# Altium integrated library Diodes - TVS.IntLib: 5379 symbols (part 110 of 122)
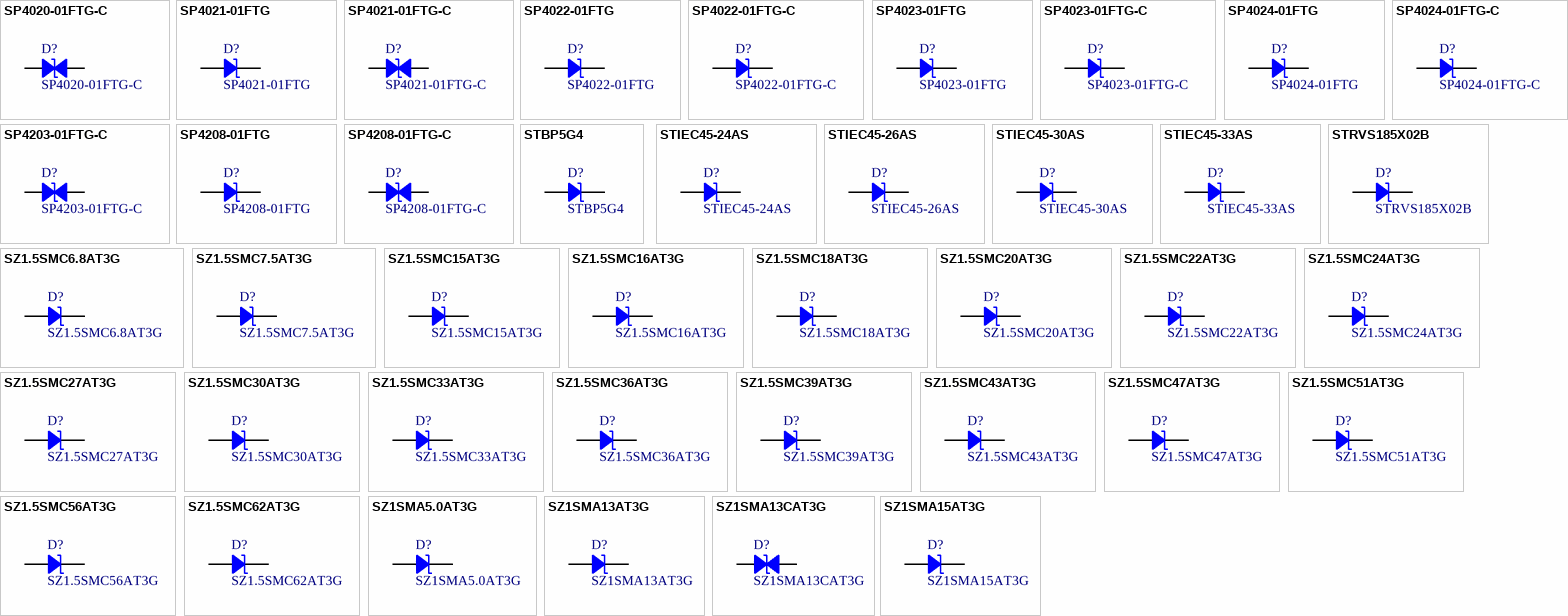
[diagram p243: symbols SP4020-01FTG-C to SZ1SMA15AT3G]

## SP4203-01FTG-C
designator D?
TVS DIODE 3.3VWM 10A ESD SOD323; Manufacturer: Littelfuse Inc.; Bidirectional Channels: 1; Capacitance @ Frequency: 0.5pF @ 1MHz; Current - Peak Pulse (10/1000µs): 10A (8/20µs); Power Line Protection: No; Type: Zener; Voltage - Breakdown (Min): 5.5V; Voltage - Clamping (Max) @ Ipp: 20V; Voltage - Reverse Standoff (Typ): 3.3V (Max); Part Number: SP4203-01FTG-C; Applications: General Purpose; ComponentLink1Description: Datasheet; ComponentLink1URL: https://www.littelfuse.com/~/media/electronics/datasheets/tvs_diode_arrays/littelfuse_tvs_diode_array_sp4203_datasheet.pdf.pdf; ComponentLink2Description: DigiKey Link; ComponentLink2URL: http://digikey.com/product-detail/en/littelfuse-inc/SP4203-01FTG-C/F11893CT-ND/9828987; LastUpdated: 9/2/2020 1:28:29 AM; Lifecycle Status: Active; Minimum Order: 1; Mounting Type: Surface Mount; Operating Temperature: -40°C ~ 125°C (TA); Package / Case: SC-76, SOD-323; Packaging: TapeAndReel; PartId: 9925; Part Status: Active; Price: 0.23; Series: Automotive, AEC-Q101, SP4203, SPA®; Supplier 1: DigiKey; Supplier Part Number 1: F11893CT-ND; Supplier Device Package: SOD-323
footprint SOD323
pins: 1, 2

## SP4208-01FTG
designator D?
TVS DIODE ARRAY 8VWM 30A SOD323; Manufacturer: Littelfuse Inc.; Capacitance @ Frequency: 3pF @ 1MHz; Current - Peak Pulse (10/1000µs): 30A (8/20µs); Power Line Protection: No; Power - Peak Pulse: 750W; Type: Zener; Unidirectional Channels: 1; Voltage - Breakdown (Min): 9.5V (Typ); Voltage - Clamping (Max) @ Ipp: 25V (Typ); Voltage - Reverse Standoff (Typ): 8V (Max); Part Number: SP4208-01FTG; Applications: General Purpose; ComponentLink1Description: Datasheet; ComponentLink1URL: https://www.littelfuse.com/~/media/electronics/datasheets/tvs_diode_arrays/littelfuse_tvs_diode_array_sp4208_datasheet.pdf.pdf; ComponentLink2Description: DigiKey Link; ComponentLink2URL: http://digikey.com/product-detail/en/littelfuse-inc/SP4208-01FTG/F10715CT-ND/8017924; LastUpdated: 9/2/2020 1:28:26 AM; Lifecycle Status: Active; Minimum Order: 1; Mounting Type: Surface Mount; Operating Temperature: -40°C ~ 125°C (TA); Package / Case: SC-76, SOD-323; Packaging: TapeAndReel; PartId: 9850; Part Status: Active; Price: 0.20; Series: Automotive, AEC-Q101,  SP4208, SPA®; Supplier 1: DigiKey; Supplier Part Number 1: F10715CT-ND; Supplier Device Package: SOD-323
footprint SOD323
pins: 1, 2

## SP4208-01FTG-C
designator D?
TVS DIODE ARRAY 8VWM 30A SOD323; Manufacturer: Littelfuse Inc.; Bidirectional Channels: 1; Capacitance @ Frequency: 3pF @ 1MHz; Current - Peak Pulse (10/1000µs): 30A (8/20µs); Power Line Protection: No; Power - Peak Pulse: 750W; Type: Zener; Voltage - Breakdown (Min): 9.5V (Typ); Voltage - Clamping (Max) @ Ipp: 25V (Typ); Voltage - Reverse Standoff (Typ): 8V (Max); Part Number: SP4208-01FTG-C; Applications: General Purpose; ComponentLink1Description: Datasheet; ComponentLink1URL: https://www.littelfuse.com/~/media/electronics/datasheets/tvs_diode_arrays/littelfuse_tvs_diode_array_sp4208_datasheet.pdf.pdf; ComponentLink2Description: DigiKey Link; ComponentLink2URL: http://digikey.com/product-detail/en/littelfuse-inc/SP4208-01FTG-C/F10716CT-ND/8017925; LastUpdated: 9/2/2020 1:28:29 AM; Lifecycle Status: Active; Minimum Order: 1; Mounting Type: Surface Mount; Operating Temperature: -40°C ~ 125°C (TA); Package / Case: SC-76, SOD-323; Packaging: CutTape; PartId: 9926; Part Status: Active; Price: 0.64; Series: Automotive, AEC-Q101,  SP4208, SPA®; Supplier 1: DigiKey; Supplier Part Number 1: F10716CT-ND; Supplier Device Package: SOD-323
footprint SOD323
pins: 1, 2

## STBP5G4
designator D?
TVS DIODE, 440V 400W, SMA; Manufacturer: EIC SEMICONDUCTOR INC.; Current - Peak Pulse (10/1000µs): 1A; Power Line Protection: No; Type: Zener; Unidirectional Channels: 1; Voltage - Breakdown (Min): 418V; Voltage - Clamping (Max) @ Ipp: 602V; Voltage - Reverse Standoff (Typ): 376V; Part Number: STBP5G4; Applications: General Purpose; ComponentLink1Description: Datasheet; ComponentLink1URL: http://www.eicsemi.com/datasheet/STBP%20Series.PDF; ComponentLink2Description: DigiKey Link; ComponentLink2URL: http://digikey.com/product-detail/en/eic-semiconductor-inc/STBP5G4/2439-STBP5G4TR-ND/11686008; LastUpdated: 8/30/2020 9:01:15 PM; Lifecycle Status: Active; Minimum Order: 5000; Mounting Type: Surface Mount; Package / Case: DO-214AC, SMA; Packaging: TapeAndReel; PartId: 11450; Power - Peak Pulse: 400W; Price: 0.10; Supplier 1: DigiKey; Supplier Part Number 1: 2439-STBP5G4TR-ND; Supplier Device Package: SMA (DO-214AC)
footprint DO214AC SMA
pins: 1, 2

## STIEC45-24AS
designator D?
TVS DIODE 24V 42V SMC; Manufacturer: STMicroelectronics; Current - Peak Pulse (10/1000µs): 500A (8/20µs); Power Line Protection: No; Type: Zener; Unidirectional Channels: 1; Voltage - Breakdown (Min): 26.7V; Part Number: STIEC45-24AS; Applications: General Purpose; ComponentLink1Description: Datasheet; ComponentLink1URL: http://www.st.com/content/ccc/resource/technical/document/datasheet/a1/ce/06/7d/48/9b/4c/d1/CD00258714.pdf/files/CD00258714.pdf/jcr:content/translations/en.CD00258714.pdf; ComponentLink2Description: DigiKey Link; ComponentLink2URL: http://digikey.com/product-detail/en/stmicroelectronics/STIEC45-24AS/497-10396-1-ND/2236919; LastUpdated: 9/2/2020 1:20:04 AM; Lifecycle Status: Active; Minimum Order: 1; Mounting Type: Surface Mount; Operating Temperature: -55°C ~ 150°C (TJ); Package / Case: DO-214AB, SMC; Packaging: TapeAndReel; PartId: 6797; Part Status: Active; Price: 1.01; Series: STIEC, TRANSIL™; Supplier 1: DigiKey; Supplier Part Number 1: 497-10396-1-ND; Supplier Device Package: SMC (DO-214AB); Voltage - Clamping (Max) @ Ipp: 42V; Voltage - Reverse Standoff (Typ): 24V
footprint DO214AB SMC
pins: 1, 2

## STIEC45-26AS
designator D?
TVS DIODE 26V 45V SMC; Manufacturer: STMicroelectronics; Current - Peak Pulse (10/1000µs): 500A (8/20µs); Power Line Protection: No; Type: Zener; Unidirectional Channels: 1; Voltage - Breakdown (Min): 28.9V; Part Number: STIEC45-26AS; Applications: General Purpose; ComponentLink1Description: Datasheet; ComponentLink1URL: http://www.st.com/content/ccc/resource/technical/document/datasheet/a1/ce/06/7d/48/9b/4c/d1/CD00258714.pdf/files/CD00258714.pdf/jcr:content/translations/en.CD00258714.pdf; ComponentLink2Description: DigiKey Link; ComponentLink2URL: http://digikey.com/product-detail/en/stmicroelectronics/STIEC45-26AS/497-10630-1-ND/2340641; LastUpdated: 9/2/2020 1:19:58 AM; Lifecycle Status: Active; Minimum Order: 1; Mounting Type: Surface Mount; Operating Temperature: -55°C ~ 150°C (TJ); Package / Case: DO-214AB, SMC; Packaging: TapeAndReel; PartId: 6226; Part Status: Active; Price: 0.91; Series: STIEC, TRANSIL™; Supplier 1: DigiKey; Supplier Part Number 1: 497-10630-1-ND; Supplier Device Package: SMC (DO-214AB); Voltage - Clamping (Max) @ Ipp: 45V; Voltage - Reverse Standoff (Typ): 26V
footprint DO214AB SMC
pins: 1, 2

## STIEC45-30AS
designator D?
TVS DIODE 30V 55V SMC; Manufacturer: STMicroelectronics; Current - Peak Pulse (10/1000µs): 500A (8/20µs); Power Line Protection: No; Type: Zener; Unidirectional Channels: 1; Voltage - Breakdown (Min): 33.3V; Part Number: STIEC45-30AS; Applications: General Purpose; ComponentLink1Description: Datasheet; ComponentLink1URL: http://www.st.com/content/ccc/resource/technical/document/datasheet/a1/ce/06/7d/48/9b/4c/d1/CD00258714.pdf/files/CD00258714.pdf/jcr:content/translations/en.CD00258714.pdf; ComponentLink2Description: DigiKey Link; ComponentLink2URL: http://digikey.com/product-detail/en/stmicroelectronics/STIEC45-30AS/497-10395-1-ND/2236921; LastUpdated: 9/2/2020 1:19:59 AM; Lifecycle Status: Active; Minimum Order: 1; Mounting Type: Surface Mount; Operating Temperature: -55°C ~ 150°C (TJ); Package / Case: DO-214AB, SMC; Packaging: TapeAndReel; PartId: 6358; Part Status: Active; Price: 0.91; Series: STIEC, TRANSIL™; Supplier 1: DigiKey; Supplier Part Number 1: 497-10395-1-ND; Supplier Device Package: SMC (DO-214AB); Voltage - Clamping (Max) @ Ipp: 55V; Voltage - Reverse Standoff (Typ): 30V
footprint DO214AB SMC
pins: 1, 2

## STIEC45-33AS
designator D?
TVS DIODE 33V 59V SMC; Manufacturer: STMicroelectronics; Current - Peak Pulse (10/1000µs): 500A (8/20µs); Power Line Protection: No; Type: Zener; Unidirectional Channels: 1; Voltage - Breakdown (Min): 36.7V; Part Number: STIEC45-33AS; Applications: General Purpose; ComponentLink1Description: Datasheet; ComponentLink1URL: http://www.st.com/content/ccc/resource/technical/document/datasheet/a1/ce/06/7d/48/9b/4c/d1/CD00258714.pdf/files/CD00258714.pdf/jcr:content/translations/en.CD00258714.pdf; ComponentLink2Description: DigiKey Link; ComponentLink2URL: http://digikey.com/product-detail/en/stmicroelectronics/STIEC45-33AS/497-10394-1-ND/2236923; LastUpdated: 9/2/2020 1:20:02 AM; Lifecycle Status: Active; Minimum Order: 1; Mounting Type: Surface Mount; Operating Temperature: -55°C ~ 150°C (TJ); Package / Case: DO-214AB, SMC; Packaging: TapeAndReel; PartId: 6636; Part Status: Active; Price: 0.91; Series: STIEC, TRANSIL™; Supplier 1: DigiKey; Supplier Part Number 1: 497-10394-1-ND; Supplier Device Package: SMC (DO-214AB); Voltage - Clamping (Max) @ Ipp: 59V; Voltage - Reverse Standoff (Typ): 33V
footprint DO214AB SMC
pins: 1, 2

## STRVS185X02B
designator D?
TVS DIODE 128V 185V SMB; Manufacturer: STMicroelectronics; Current - Peak Pulse (10/1000µs): 2A (8/20µs); Power Line Protection: No; Type: Zener; Unidirectional Channels: 1; Voltage - Breakdown (Min): 143V; Part Number: STRVS185X02B; Applications: MOSFET Protection; ComponentLink1Description: Datasheet; ComponentLink1URL: http://www.st.com/content/ccc/resource/technical/document/datasheet/16/ac/d2/3e/c1/9e/45/61/DM00070666.pdf/files/DM00070666.pdf/jcr:content/translations/en.DM00070666.pdf; ComponentLink2Description: DigiKey Link; ComponentLink2URL: http://digikey.com/product-detail/en/stmicroelectronics/STRVS185X02B/497-13722-1-ND/4090270; LastUpdated: 9/2/2020 1:19:46 AM; Lifecycle Status: Active; Minimum Order: 1; Mounting Type: Surface Mount; Operating Temperature: -55°C ~ 150°C (TJ); Package / Case: DO-214AA, SMB; Packaging: TapeAndReel; PartId: 10827; Part Status: Active; Price: 0.22; Series: STRVS; Supplier 1: DigiKey; Supplier Part Number 1: 497-13722-1-ND; Supplier Device Package: SMB; Voltage - Clamping (Max) @ Ipp: 185V; Voltage - Reverse Standoff (Typ): 128V
footprint DO214AA SMB
pins: 1, 2

## SZ1.5SMC6.8AT3G
designator D?
TVS DIODE 5.8V 10.5V SMC; Manufacturer: Littelfuse Inc.; Current - Peak Pulse (10/1000µs): 143A; Power Line Protection: No; Power - Peak Pulse: 1500W (1.5kW); Type: Zener; Unidirectional Channels: 1; Voltage - Breakdown (Min): 6.45V; Part Number: SZ1.5SMC6.8AT3G; Applications: Automotive; ComponentLink1Description: Datasheet; ComponentLink1URL: https://www.littelfuse.com/~/media/electronics/datasheets/tvs_diodes/littelfuse_tvs_diode_sz1_5smcxxa_datasheet.pdf.pdf; ComponentLink2Description: DigiKey Link; ComponentLink2URL: http://digikey.com/product-detail/en/littelfuse-inc/SZ1.5SMC6.8AT3G/F11499CT-ND/9326828; LastUpdated: 9/2/2020 1:20:00 AM; Lifecycle Status: Active; Minimum Order: 1; Mounting Type: Surface Mount; Operating Temperature: -65°C ~ 150°C (TJ); Package / Case: DO-214AB, SMC; Packaging: TapeAndReel; PartId: 6363; Part Status: Active; Price: 0.43; Series: Automotive, AEC-Q101; Supplier 1: DigiKey; Supplier Part Number 1: F11499CT-ND; Supplier Device Package: SMC; Voltage - Clamping (Max) @ Ipp: 10.5V; Voltage - Reverse Standoff (Typ): 5.8V
footprint DO214AB SMC
pins: 1, 2

## SZ1.5SMC7.5AT3G
designator D?
TVS DIODE 6.4V 11.3V SMC; Manufacturer: Littelfuse Inc.; Current - Peak Pulse (10/1000µs): 132A; Power Line Protection: No; Power - Peak Pulse: 1500W (1.5kW); Type: Zener; Unidirectional Channels: 1; Voltage - Breakdown (Min): 7.13V; Part Number: SZ1.5SMC7.5AT3G; Applications: Automotive; ComponentLink1Description: Datasheet; ComponentLink1URL: https://www.littelfuse.com/~/media/electronics/datasheets/tvs_diodes/littelfuse_tvs_diode_sz1_5smcxxa_datasheet.pdf.pdf; ComponentLink2Description: DigiKey Link; ComponentLink2URL: http://digikey.com/product-detail/en/littelfuse-inc/SZ1.5SMC7.5AT3G/F11501CT-ND/9326830; LastUpdated: 9/2/2020 1:20:06 AM; Lifecycle Status: Active; Minimum Order: 1; Mounting Type: Surface Mount; Operating Temperature: -65°C ~ 150°C (TJ); Package / Case: DO-214AB, SMC; Packaging: TapeAndReel; PartId: 7078; Part Status: Active; Price: 0.43; Series: Automotive, AEC-Q101; Supplier 1: DigiKey; Supplier Part Number 1: F11501CT-ND; Supplier Device Package: SMC; Voltage - Clamping (Max) @ Ipp: 11.3V; Voltage - Reverse Standoff (Typ): 6.4V
footprint DO214AB SMC
pins: 1, 2

## SZ1.5SMC15AT3G
designator D?
TVS DIODE 12.8V 21.2V SMC; Manufacturer: Littelfuse Inc.; Current - Peak Pulse (10/1000µs): 71A; Power Line Protection: No; Power - Peak Pulse: 1500W (1.5kW); Type: Zener; Unidirectional Channels: 1; Voltage - Breakdown (Min): 14.3V; Part Number: SZ1.5SMC15AT3G; Applications: Automotive; ComponentLink1Description: Datasheet; ComponentLink1URL: https://www.littelfuse.com/~/media/electronics/datasheets/tvs_diodes/littelfuse_tvs_diode_sz1_5smcxxa_datasheet.pdf.pdf; ComponentLink2Description: DigiKey Link; ComponentLink2URL: http://digikey.com/product-detail/en/littelfuse-inc/SZ1.5SMC15AT3G/F11486CT-ND/9326816; LastUpdated: 9/2/2020 1:19:59 AM; Lifecycle Status: Active; Minimum Order: 1; Mounting Type: Surface Mount; Operating Temperature: -65°C ~ 150°C (TJ); Package / Case: DO-214AB, SMC; Packaging: TapeAndReel; PartId: 6346; Part Status: Active; Price: 0.43; Series: Automotive, AEC-Q101; Supplier 1: DigiKey; Supplier Part Number 1: F11486CT-ND; Supplier Device Package: SMC; Voltage - Clamping (Max) @ Ipp: 21.2V; Voltage - Reverse Standoff (Typ): 12.8V
footprint DO214AB SMC
pins: 1, 2

## SZ1.5SMC16AT3G
designator D?
TVS DIODE 13.6V 22.5V SMC; Manufacturer: Littelfuse Inc.; Current - Peak Pulse (10/1000µs): 67A; Power Line Protection: No; Power - Peak Pulse: 1500W (1.5kW); Type: Zener; Unidirectional Channels: 1; Voltage - Breakdown (Min): 15.2V; Part Number: SZ1.5SMC16AT3G; Applications: Automotive; ComponentLink1Description: Datasheet; ComponentLink1URL: https://www.littelfuse.com/~/media/electronics/datasheets/tvs_diodes/littelfuse_tvs_diode_sz1_5smcxxa_datasheet.pdf.pdf; ComponentLink2Description: DigiKey Link; ComponentLink2URL: http://digikey.com/product-detail/en/littelfuse-inc/SZ1.5SMC16AT3G/F11487CT-ND/9326817; LastUpdated: 9/2/2020 1:20:01 AM; Lifecycle Status: Active; Minimum Order: 1; Mounting Type: Surface Mount; Operating Temperature: -65°C ~ 150°C (TJ); Package / Case: DO-214AB, SMC; Packaging: TapeAndReel; PartId: 6524; Part Status: Active; Price: 0.43; Series: Automotive, AEC-Q101; Supplier 1: DigiKey; Supplier Part Number 1: F11487CT-ND; Supplier Device Package: SMC; Voltage - Clamping (Max) @ Ipp: 22.5V; Voltage - Reverse Standoff (Typ): 13.6V
footprint DO214AB SMC
pins: 1, 2

## SZ1.5SMC18AT3G
designator D?
TVS DIODE 15.3V 25.2V SMC; Manufacturer: Littelfuse Inc.; Current - Peak Pulse (10/1000µs): 59.5A; Power Line Protection: No; Power - Peak Pulse: 1500W (1.5kW); Type: Zener; Unidirectional Channels: 1; Voltage - Breakdown (Min): 17.1V; Part Number: SZ1.5SMC18AT3G; Applications: Automotive; ComponentLink1Description: Datasheet; ComponentLink1URL: https://www.littelfuse.com/~/media/electronics/datasheets/tvs_diodes/littelfuse_tvs_diode_sz1_5smcxxa_datasheet.pdf.pdf; ComponentLink2Description: DigiKey Link; ComponentLink2URL: http://digikey.com/product-detail/en/littelfuse-inc/SZ1.5SMC18AT3G/F11488CT-ND/9326788; LastUpdated: 9/2/2020 1:19:59 AM; Lifecycle Status: Active; Minimum Order: 1; Mounting Type: Surface Mount; Operating Temperature: -65°C ~ 150°C (TJ); Package / Case: DO-214AB, SMC; Packaging: TapeAndReel; PartId: 6345; Part Status: Active; Price: 0.43; Series: Automotive, AEC-Q101; Supplier 1: DigiKey; Supplier Part Number 1: F11488CT-ND; Supplier Device Package: SMC; Voltage - Clamping (Max) @ Ipp: 25.2V; Voltage - Reverse Standoff (Typ): 15.3V
footprint DO214AB SMC
pins: 1, 2

## SZ1.5SMC20AT3G
designator D?
TVS DIODE 17.1V 27.7V SMC; Manufacturer: Littelfuse Inc.; Current - Peak Pulse (10/1000µs): 54A; Power Line Protection: No; Power - Peak Pulse: 1500W (1.5kW); Type: Zener; Unidirectional Channels: 1; Voltage - Breakdown (Min): 19V; Part Number: SZ1.5SMC20AT3G; Applications: Automotive; ComponentLink1Description: Datasheet; ComponentLink1URL: https://www.littelfuse.com/~/media/electronics/datasheets/tvs_diodes/littelfuse_tvs_diode_sz1_5smcxxa_datasheet.pdf.pdf; ComponentLink2Description: DigiKey Link; ComponentLink2URL: http://digikey.com/product-detail/en/littelfuse-inc/SZ1.5SMC20AT3G/F11489CT-ND/9326818; LastUpdated: 9/2/2020 1:20:06 AM; Lifecycle Status: Active; Minimum Order: 1; Mounting Type: Surface Mount; Operating Temperature: -65°C ~ 150°C (TJ); Package / Case: DO-214AB, SMC; Packaging: TapeAndReel; PartId: 7081; Part Status: Active; Price: 0.43; Series: Automotive, AEC-Q101; Supplier 1: DigiKey; Supplier Part Number 1: F11489CT-ND; Supplier Device Package: SMC; Voltage - Clamping (Max) @ Ipp: 27.7V; Voltage - Reverse Standoff (Typ): 17.1V
footprint DO214AB SMC
pins: 1, 2

## SZ1.5SMC22AT3G
designator D?
TVS DIODE 18.8V 30.6V SMC; Manufacturer: Littelfuse Inc.; Current - Peak Pulse (10/1000µs): 49A; Power Line Protection: No; Power - Peak Pulse: 1500W (1.5kW); Type: Zener; Unidirectional Channels: 1; Voltage - Breakdown (Min): 20.9V; Part Number: SZ1.5SMC22AT3G; Applications: Automotive; ComponentLink1Description: Datasheet; ComponentLink1URL: https://www.littelfuse.com/~/media/electronics/datasheets/tvs_diodes/littelfuse_tvs_diode_sz1_5smcxxa_datasheet.pdf.pdf; ComponentLink2Description: DigiKey Link; ComponentLink2URL: http://digikey.com/product-detail/en/littelfuse-inc/SZ1.5SMC22AT3G/F11490CT-ND/9326819; LastUpdated: 9/2/2020 1:20:07 AM; Lifecycle Status: Active; Minimum Order: 1; Mounting Type: Surface Mount; Operating Temperature: -65°C ~ 150°C (TJ); Package / Case: DO-214AB, SMC; Packaging: TapeAndReel; PartId: 7143; Part Status: Active; Price: 0.43; Series: Automotive, AEC-Q101; Supplier 1: DigiKey; Supplier Part Number 1: F11490CT-ND; Supplier Device Package: SMC; Voltage - Clamping (Max) @ Ipp: 30.6V; Voltage - Reverse Standoff (Typ): 18.8V
footprint DO214AB SMC
pins: 1, 2

## SZ1.5SMC24AT3G
designator D?
TVS DIODE 20.5V 33.2V SMC; Manufacturer: Littelfuse Inc.; Current - Peak Pulse (10/1000µs): 45A; Power Line Protection: No; Power - Peak Pulse: 1500W (1.5kW); Type: Zener; Unidirectional Channels: 1; Voltage - Breakdown (Min): 22.8V; Part Number: SZ1.5SMC24AT3G; Applications: Automotive; ComponentLink1Description: Datasheet; ComponentLink1URL: https://www.littelfuse.com/~/media/electronics/datasheets/tvs_diodes/littelfuse_tvs_diode_sz1_5smcxxa_datasheet.pdf.pdf; ComponentLink2Description: DigiKey Link; ComponentLink2URL: http://digikey.com/product-detail/en/littelfuse-inc/SZ1.5SMC24AT3G/F11491CT-ND/9326820; LastUpdated: 9/2/2020 1:20:06 AM; Lifecycle Status: Active; Minimum Order: 1; Mounting Type: Surface Mount; Operating Temperature: -65°C ~ 150°C (TJ); Package / Case: DO-214AB, SMC; Packaging: TapeAndReel; PartId: 7072; Part Status: Active; Price: 0.43; Series: Automotive, AEC-Q101; Supplier 1: DigiKey; Supplier Part Number 1: F11491CT-ND; Supplier Device Package: SMC; Voltage - Clamping (Max) @ Ipp: 33.2V; Voltage - Reverse Standoff (Typ): 20.5V
footprint DO214AB SMC
pins: 1, 2

## SZ1.5SMC27AT3G
designator D?
TVS DIODE 23.1V 37.5V SMC; Manufacturer: Littelfuse Inc.; Current - Peak Pulse (10/1000µs): 40A; Power Line Protection: No; Power - Peak Pulse: 1500W (1.5kW); Type: Zener; Unidirectional Channels: 1; Voltage - Breakdown (Min): 25.7V; Part Number: SZ1.5SMC27AT3G; Applications: Automotive; ComponentLink1Description: Datasheet; ComponentLink1URL: https://www.littelfuse.com/~/media/electronics/datasheets/tvs_diodes/littelfuse_tvs_diode_sz1_5smcxxa_datasheet.pdf.pdf; ComponentLink2Description: DigiKey Link; ComponentLink2URL: http://digikey.com/product-detail/en/littelfuse-inc/SZ1.5SMC27AT3G/SZ1.5SMC27AT3GOSCT-ND/5969196; LastUpdated: 9/2/2020 1:20:06 AM; Lifecycle Status: Active; Minimum Order: 1; Mounting Type: Surface Mount; Operating Temperature: -65°C ~ 150°C (TJ); Package / Case: DO-214AB, SMC; Packaging: TapeAndReel; PartId: 7079; Part Status: Active; Price: 0.43; Series: Automotive, AEC-Q101; Supplier 1: DigiKey; Supplier Part Number 1: SZ1.5SMC27AT3GOSCT-ND; Supplier Device Package: SMC; Voltage - Clamping (Max) @ Ipp: 37.5V; Voltage - Reverse Standoff (Typ): 23.1V
footprint DO214AB SMC
pins: 1, 2

## SZ1.5SMC30AT3G
designator D?
TVS DIODE 25.6V 41.4V SMC; Manufacturer: Littelfuse Inc.; Current - Peak Pulse (10/1000µs): 36A; Power Line Protection: No; Power - Peak Pulse: 1500W (1.5kW); Type: Zener; Unidirectional Channels: 1; Voltage - Breakdown (Min): 28.5V; Part Number: SZ1.5SMC30AT3G; Applications: Automotive; ComponentLink1Description: Datasheet; ComponentLink1URL: https://www.littelfuse.com/~/media/electronics/datasheets/tvs_diodes/littelfuse_tvs_diode_sz1_5smcxxa_datasheet.pdf.pdf; ComponentLink2Description: DigiKey Link; ComponentLink2URL: http://digikey.com/product-detail/en/littelfuse-inc/SZ1.5SMC30AT3G/F11492CT-ND/9326821; LastUpdated: 9/2/2020 1:19:58 AM; Lifecycle Status: Active; Minimum Order: 1; Mounting Type: Surface Mount; Operating Temperature: -65°C ~ 150°C (TJ); Package / Case: DO-214AB, SMC; Packaging: TapeAndReel; PartId: 6260; Part Status: Active; Price: 0.43; Series: Automotive, AEC-Q101; Supplier 1: DigiKey; Supplier Part Number 1: F11492CT-ND; Supplier Device Package: SMC; Voltage - Clamping (Max) @ Ipp: 41.4V; Voltage - Reverse Standoff (Typ): 25.6V
footprint DO214AB SMC
pins: 1, 2

## SZ1.5SMC33AT3G
designator D?
TVS DIODE 28.2VWM 45.7VC SMC; Manufacturer: Littelfuse Inc.; Current - Peak Pulse (10/1000µs): 33A; Power Line Protection: No; Power - Peak Pulse: 1500W (1.5kW); Type: Zener; Unidirectional Channels: 1; Voltage - Breakdown (Min): 31.4V; Voltage - Clamping (Max) @ Ipp: 45.7V; Voltage - Reverse Standoff (Typ): 28.2V; Part Number: SZ1.5SMC33AT3G; Applications: Automotive; ComponentLink1Description: Datasheet; ComponentLink1URL: https://www.littelfuse.com/~/media/electronics/datasheets/tvs_diodes/littelfuse_tvs_diode_sz1_5smcxxa_datasheet.pdf.pdf; ComponentLink2Description: DigiKey Link; ComponentLink2URL: http://digikey.com/product-detail/en/littelfuse-inc/SZ1.5SMC33AT3G/SZ1.5SMC33AT3GCT-ND/8548342; LastUpdated: 9/2/2020 1:20:01 AM; Lifecycle Status: Active; Minimum Order: 1; Mounting Type: Surface Mount; Operating Temperature: -65°C ~ 150°C (TJ); Package / Case: DO-214AB, SMC; Packaging: TapeAndReel; PartId: 6523; Part Status: Active; Price: 0.43; Series: Automotive, AEC-Q101; Supplier 1: DigiKey; Supplier Part Number 1: SZ1.5SMC33AT3GCT-ND; Supplier Device Package: SMC
footprint DO214AB SMC
pins: 1, 2

## SZ1.5SMC36AT3G
designator D?
TVS DIODE 30.8V 49.9V SMC; Manufacturer: Littelfuse Inc.; Current - Peak Pulse (10/1000µs): 30A; Power Line Protection: No; Power - Peak Pulse: 1500W (1.5kW); Type: Zener; Unidirectional Channels: 1; Voltage - Breakdown (Min): 34.2V; Part Number: SZ1.5SMC36AT3G; Applications: Automotive; ComponentLink1Description: Datasheet; ComponentLink1URL: https://www.littelfuse.com/~/media/electronics/datasheets/tvs_diodes/littelfuse_tvs_diode_sz1_5smcxxa_datasheet.pdf.pdf; ComponentLink2Description: DigiKey Link; ComponentLink2URL: http://digikey.com/product-detail/en/littelfuse-inc/SZ1.5SMC36AT3G/F11493CT-ND/9326822; LastUpdated: 9/2/2020 1:20:06 AM; Lifecycle Status: Active; Minimum Order: 1; Mounting Type: Surface Mount; Operating Temperature: -65°C ~ 150°C (TJ); Package / Case: DO-214AB, SMC; Packaging: TapeAndReel; PartId: 6986; Part Status: Active; Price: 0.48; Series: Automotive, AEC-Q101; Supplier 1: DigiKey; Supplier Part Number 1: F11493CT-ND; Supplier Device Package: SMC; Voltage - Clamping (Max) @ Ipp: 49.9V; Voltage - Reverse Standoff (Typ): 30.8V
footprint DO214AB SMC
pins: 1, 2

## SZ1.5SMC39AT3G
designator D?
TVS DIODE 33.3V 53.9V SMC; Manufacturer: Littelfuse Inc.; Current - Peak Pulse (10/1000µs): 28A; Power Line Protection: No; Power - Peak Pulse: 1500W (1.5kW); Type: Zener; Unidirectional Channels: 1; Voltage - Breakdown (Min): 37.1V; Part Number: SZ1.5SMC39AT3G; Applications: Automotive; ComponentLink1Description: Datasheet; ComponentLink1URL: https://www.littelfuse.com/~/media/electronics/datasheets/tvs_diodes/littelfuse_tvs_diode_sz1_5smcxxa_datasheet.pdf.pdf; ComponentLink2Description: DigiKey Link; ComponentLink2URL: http://digikey.com/product-detail/en/littelfuse-inc/SZ1.5SMC39AT3G/F11494CT-ND/9326823; LastUpdated: 9/2/2020 1:20:06 AM; Lifecycle Status: Active; Minimum Order: 1; Mounting Type: Surface Mount; Operating Temperature: -65°C ~ 150°C (TJ); Package / Case: DO-214AB, SMC; Packaging: TapeAndReel; PartId: 7068; Part Status: Active; Price: 0.43; Series: Automotive, AEC-Q101; Supplier 1: DigiKey; Supplier Part Number 1: F11494CT-ND; Supplier Device Package: SMC; Voltage - Clamping (Max) @ Ipp: 53.9V; Voltage - Reverse Standoff (Typ): 33.3V
footprint DO214AB SMC
pins: 1, 2

## SZ1.5SMC43AT3G
designator D?
TVS DIODE 36.8V 59.3V SMC; Manufacturer: Littelfuse Inc.; Current - Peak Pulse (10/1000µs): 25.3A; Power Line Protection: No; Power - Peak Pulse: 1500W (1.5kW); Type: Zener; Unidirectional Channels: 1; Voltage - Breakdown (Min): 40.9V; Part Number: SZ1.5SMC43AT3G; Applications: Automotive; ComponentLink1Description: Datasheet; ComponentLink1URL: https://www.littelfuse.com/~/media/electronics/datasheets/tvs_diodes/littelfuse_tvs_diode_sz1_5smcxxa_datasheet.pdf.pdf; ComponentLink2Description: DigiKey Link; ComponentLink2URL: http://digikey.com/product-detail/en/littelfuse-inc/SZ1.5SMC43AT3G/F11495CT-ND/9326824; LastUpdated: 9/2/2020 1:19:59 AM; Lifecycle Status: Active; Minimum Order: 1; Mounting Type: Surface Mount; Operating Temperature: -65°C ~ 150°C (TJ); Package / Case: DO-214AB, SMC; Packaging: TapeAndReel; PartId: 6337; Part Status: Active; Price: 0.45; Series: Automotive, AEC-Q101; Supplier 1: DigiKey; Supplier Part Number 1: F11495CT-ND; Supplier Device Package: SMC; Voltage - Clamping (Max) @ Ipp: 59.3V; Voltage - Reverse Standoff (Typ): 36.8V
footprint DO214AB SMC
pins: 1, 2

## SZ1.5SMC47AT3G
designator D?
TVS DIODE 40.2V 64.8V SMC; Manufacturer: Littelfuse Inc.; Current - Peak Pulse (10/1000µs): 23.2A; Power Line Protection: No; Power - Peak Pulse: 1500W (1.5kW); Type: Zener; Unidirectional Channels: 1; Voltage - Breakdown (Min): 44.7V; Part Number: SZ1.5SMC47AT3G; Applications: Automotive; ComponentLink1Description: Datasheet; ComponentLink1URL: https://www.littelfuse.com/~/media/electronics/datasheets/tvs_diodes/littelfuse_tvs_diode_sz1_5smcxxa_datasheet.pdf.pdf; ComponentLink2Description: DigiKey Link; ComponentLink2URL: http://digikey.com/product-detail/en/littelfuse-inc/SZ1.5SMC47AT3G/F11496CT-ND/9326825; LastUpdated: 9/2/2020 1:19:59 AM; Lifecycle Status: Active; Minimum Order: 1; Mounting Type: Surface Mount; Operating Temperature: -65°C ~ 150°C (TJ); Package / Case: DO-214AB, SMC; Packaging: TapeAndReel; PartId: 6343; Part Status: Active; Price: 0.43; Series: Automotive, AEC-Q101; Supplier 1: DigiKey; Supplier Part Number 1: F11496CT-ND; Supplier Device Package: SMC; Voltage - Clamping (Max) @ Ipp: 64.8V; Voltage - Reverse Standoff (Typ): 40.2V
footprint DO214AB SMC
pins: 1, 2

## SZ1.5SMC51AT3G
designator D?
TVS DIODE 43.6V 70.1V SMC; Manufacturer: Littelfuse Inc.; Current - Peak Pulse (10/1000µs): 21.4A; Power Line Protection: No; Power - Peak Pulse: 1500W (1.5kW); Type: Zener; Unidirectional Channels: 1; Voltage - Breakdown (Min): 48.5V; Part Number: SZ1.5SMC51AT3G; Applications: Automotive; ComponentLink1Description: Datasheet; ComponentLink1URL: https://www.littelfuse.com/~/media/electronics/datasheets/tvs_diodes/littelfuse_tvs_diode_sz1_5smcxxa_datasheet.pdf.pdf; ComponentLink2Description: DigiKey Link; ComponentLink2URL: http://digikey.com/product-detail/en/littelfuse-inc/SZ1.5SMC51AT3G/F11497CT-ND/9326826; LastUpdated: 9/2/2020 1:20:06 AM; Lifecycle Status: Active; Minimum Order: 1; Mounting Type: Surface Mount; Operating Temperature: -65°C ~ 150°C (TJ); Package / Case: DO-214AB, SMC; Packaging: TapeAndReel; PartId: 7075; Part Status: Active; Price: 0.43; Series: Automotive, AEC-Q101; Supplier 1: DigiKey; Supplier Part Number 1: F11497CT-ND; Supplier Device Package: SMC; Voltage - Clamping (Max) @ Ipp: 70.1V; Voltage - Reverse Standoff (Typ): 43.6V
footprint DO214AB SMC
pins: 1, 2

## SZ1.5SMC56AT3G
designator D?
TVS DIODE 47.8V 77V SMC; Manufacturer: Littelfuse Inc.; Current - Peak Pulse (10/1000µs): 19.5A; Power Line Protection: No; Power - Peak Pulse: 1500W (1.5kW); Type: Zener; Unidirectional Channels: 1; Voltage - Breakdown (Min): 53.2V; Part Number: SZ1.5SMC56AT3G; Applications: Automotive; ComponentLink1Description: Datasheet; ComponentLink1URL: https://www.littelfuse.com/~/media/electronics/datasheets/tvs_diodes/littelfuse_tvs_diode_sz1_5smcxxa_datasheet.pdf.pdf; ComponentLink2Description: DigiKey Link; ComponentLink2URL: http://digikey.com/product-detail/en/littelfuse-inc/SZ1.5SMC56AT3G/F11498CT-ND/9326827; LastUpdated: 9/2/2020 1:20:06 AM; Lifecycle Status: Active; Minimum Order: 1; Mounting Type: Surface Mount; Operating Temperature: -65°C ~ 150°C (TJ); Package / Case: DO-214AB, SMC; Packaging: TapeAndReel; PartId: 7080; Part Status: Active; Price: 0.43; Series: Automotive, AEC-Q101; Supplier 1: DigiKey; Supplier Part Number 1: F11498CT-ND; Supplier Device Package: SMC; Voltage - Clamping (Max) @ Ipp: 77V; Voltage - Reverse Standoff (Typ): 47.8V
footprint DO214AB SMC
pins: 1, 2

## SZ1.5SMC62AT3G
designator D?
TVS DIODE 53V 85V SMC; Manufacturer: Littelfuse Inc.; Current - Peak Pulse (10/1000µs): 17.7A; Power Line Protection: No; Power - Peak Pulse: 1500W (1.5kW); Type: Zener; Unidirectional Channels: 1; Voltage - Breakdown (Min): 58.9V; Part Number: SZ1.5SMC62AT3G; Applications: Automotive; ComponentLink1Description: Datasheet; ComponentLink1URL: https://www.littelfuse.com/~/media/electronics/datasheets/tvs_diodes/littelfuse_tvs_diode_sz1_5smcxxa_datasheet.pdf.pdf; ComponentLink2Description: DigiKey Link; ComponentLink2URL: http://digikey.com/product-detail/en/littelfuse-inc/SZ1.5SMC62AT3G/F11500CT-ND/9326829; LastUpdated: 9/2/2020 1:20:07 AM; Lifecycle Status: Active; Minimum Order: 1; Mounting Type: Surface Mount; Operating Temperature: -65°C ~ 150°C (TJ); Package / Case: DO-214AB, SMC; Packaging: TapeAndReel; PartId: 7142; Part Status: Active; Price: 0.43; Series: Automotive, AEC-Q101; Supplier 1: DigiKey; Supplier Part Number 1: F11500CT-ND; Supplier Device Package: SMC; Voltage - Clamping (Max) @ Ipp: 85V; Voltage - Reverse Standoff (Typ): 53V
footprint DO214AB SMC
pins: 1, 2

## SZ1SMA5.0AT3G
designator D?
TVS DIODE 5V 9.2V SMA; Manufacturer: Littelfuse Inc.; Capacitance @ Frequency: 2035pF @ 1MHz; Current - Peak Pulse (10/1000µs): 43.5A; Power Line Protection: No; Power - Peak Pulse: 400W; Type: Zener; Unidirectional Channels: 1; Voltage - Breakdown (Min): 6.4V; Part Number: SZ1SMA5.0AT3G; Applications: Automotive; ComponentLink1Description: Datasheet; ComponentLink1URL: https://www.littelfuse.com/~/media/electronics/datasheets/tvs_diodes/littelfuse_tvs_diode_sz1smaxxa_datasheet.pdf.pdf; ComponentLink2Description: DigiKey Link; ComponentLink2URL: http://digikey.com/product-detail/en/littelfuse-inc/SZ1SMA5.0AT3G/F11528CT-ND/9326856; LastUpdated: 9/2/2020 1:20:15 AM; Lifecycle Status: Active; Minimum Order: 1; Mounting Type: Surface Mount; Operating Temperature: -65°C ~ 150°C (TJ); Package / Case: DO-214AC, SMA; Packaging: TapeAndReel; PartId: 5843; Part Status: Active; Price: 0.19; Series: Automotive, AEC-Q101; Supplier 1: DigiKey; Supplier Part Number 1: F11528CT-ND; Supplier Device Package: SMA; Voltage - Clamping (Max) @ Ipp: 9.2V; Voltage - Reverse Standoff (Typ): 5V
footprint DO214AC SMA
pins: 1, 2

## SZ1SMA13AT3G
designator D?
TVS DIODE 13V 21.5V SMA; Manufacturer: Littelfuse Inc.; Capacitance @ Frequency: 860pF @ 1MHz; Current - Peak Pulse (10/1000µs): 18.6A; Power Line Protection: No; Power - Peak Pulse: 400W; Type: Zener; Unidirectional Channels: 1; Voltage - Breakdown (Min): 14.4V; Part Number: SZ1SMA13AT3G; Applications: Automotive; ComponentLink1Description: Datasheet; ComponentLink1URL: https://www.littelfuse.com/~/media/electronics/datasheets/tvs_diodes/littelfuse_tvs_diode_sz1smaxxa_datasheet.pdf.pdf; ComponentLink2Description: DigiKey Link; ComponentLink2URL: http://digikey.com/product-detail/en/littelfuse-inc/SZ1SMA13AT3G/F11502CT-ND/9326831; LastUpdated: 9/2/2020 1:20:13 AM; Lifecycle Status: Active; Minimum Order: 1; Mounting Type: Surface Mount; Operating Temperature: -65°C ~ 150°C (TJ); Package / Case: DO-214AC, SMA; Packaging: TapeAndReel; PartId: 5567; Part Status: Active; Price: 0.19; Series: Automotive, AEC-Q101; Supplier 1: DigiKey; Supplier Part Number 1: F11502CT-ND; Supplier Device Package: SMA; Voltage - Clamping (Max) @ Ipp: 21.5V; Voltage - Reverse Standoff (Typ): 13V
footprint DO214AC SMA
pins: 1, 2

## SZ1SMA13CAT3G
designator D?
TVS DIODE 13V 21.5V SMA; Manufacturer: Littelfuse Inc.; Bidirectional Channels: 1; Capacitance @ Frequency: 455pF @ 1MHz; Current - Peak Pulse (10/1000µs): 18.6A; Power Line Protection: No; Power - Peak Pulse: 400W; Type: Zener; Voltage - Breakdown (Min): 14.4V; Part Number: SZ1SMA13CAT3G; Applications: Automotive; ComponentLink1Description: Datasheet; ComponentLink1URL: https://www.littelfuse.com/~/media/electronics/datasheets/tvs_diodes/littelfuse_tvs_diode_sz1smaxxca_datasheet.pdf.pdf; ComponentLink2Description: DigiKey Link; ComponentLink2URL: http://digikey.com/product-detail/en/littelfuse-inc/SZ1SMA13CAT3G/F11503CT-ND/9326832; LastUpdated: 9/2/2020 1:27:53 AM; Lifecycle Status: Active; Minimum Order: 1; Mounting Type: Surface Mount; Operating Temperature: -65°C ~ 150°C (TJ); Package / Case: DO-214AC, SMA; Packaging: TapeAndReel; PartId: 7547; Part Status: Active; Price: 0.30; Series: Automotive, AEC-Q101; Supplier 1: DigiKey; Supplier Part Number 1: F11503CT-ND; Supplier Device Package: SMA; Voltage - Clamping (Max) @ Ipp: 21.5V; Voltage - Reverse Standoff (Typ): 13V
footprint DO214AC SMA
pins: 1, 2

## SZ1SMA15AT3G
designator D?
TVS DIODE 15V 24.4V SMA; Manufacturer: Littelfuse Inc.; Capacitance @ Frequency: 758pF @ 1MHz; Current - Peak Pulse (10/1000µs): 16.4A; Power Line Protection: No; Power - Peak Pulse: 400W; Type: Zener; Unidirectional Channels: 1; Voltage - Breakdown (Min): 16.7V; Part Number: SZ1SMA15AT3G; Applications: Automotive; ComponentLink1Description: Datasheet; ComponentLink1URL: https://www.littelfuse.com/~/media/electronics/datasheets/tvs_diodes/littelfuse_tvs_diode_sz1smaxxa_datasheet.pdf.pdf; ComponentLink2Description: DigiKey Link; ComponentLink2URL: http://digikey.com/product-detail/en/littelfuse-inc/SZ1SMA15AT3G/F11504CT-ND/9326789; LastUpdated: 9/2/2020 1:20:12 AM; Lifecycle Status: Active; Minimum Order: 1; Mounting Type: Surface Mount; Operating Temperature: -65°C ~ 150°C (TJ); Package / Case: DO-214AC, SMA; Packaging: TapeAndReel; PartId: 5561; Part Status: Active; Price: 0.19; Series: Automotive, AEC-Q101; Supplier 1: DigiKey; Supplier Part Number 1: F11504CT-ND; Supplier Device Package: SMA; Voltage - Clamping (Max) @ Ipp: 24.4V; Voltage - Reverse Standoff (Typ): 15V
footprint DO214AC SMA
pins: 1, 2

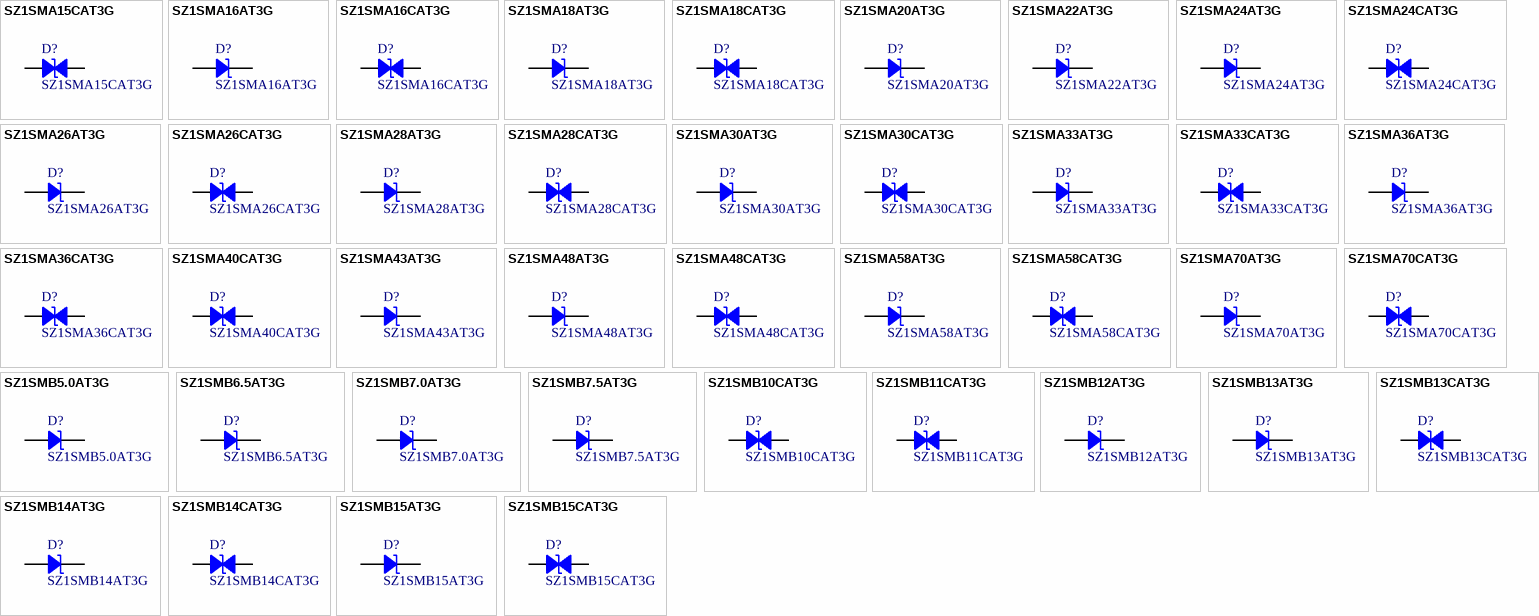
[diagram p122: symbols SZ1SMA15CAT3G to SZ1SMB15CAT3G]

## SZ1SMA15CAT3G
designator D?
TVS DIODE 15V 24.4V SMA; Manufacturer: Littelfuse Inc.; Bidirectional Channels: 1; Capacitance @ Frequency: 400pF @ 1MHz; Current - Peak Pulse (10/1000µs): 16.4A; Power Line Protection: No; Power - Peak Pulse: 400W; Type: Zener; Voltage - Breakdown (Min): 16.7V; Part Number: SZ1SMA15CAT3G; Applications: Automotive; ComponentLink1Description: Datasheet; ComponentLink1URL: https://www.littelfuse.com/~/media/electronics/datasheets/tvs_diodes/littelfuse_tvs_diode_sz1smaxxca_datasheet.pdf.pdf; ComponentLink2Description: DigiKey Link; ComponentLink2URL: http://digikey.com/product-detail/en/littelfuse-inc/SZ1SMA15CAT3G/F11505CT-ND/9326833; LastUpdated: 9/2/2020 1:27:50 AM; Lifecycle Status: Active; Minimum Order: 1; Mounting Type: Surface Mount; Operating Temperature: -65°C ~ 150°C (TJ); Package / Case: DO-214AC, SMA; Packaging: TapeAndReel; PartId: 7307; Part Status: Active; Price: 0.30; Series: Automotive, AEC-Q101; Supplier 1: DigiKey; Supplier Part Number 1: F11505CT-ND; Supplier Device Package: SMA; Voltage - Clamping (Max) @ Ipp: 24.4V; Voltage - Reverse Standoff (Typ): 15V
footprint DO214AC SMA
pins: 1, 2

## SZ1SMA16AT3G
designator D?
TVS DIODE 16V 26V SMA; Manufacturer: Littelfuse Inc.; Capacitance @ Frequency: 715pF @ 1MHz; Current - Peak Pulse (10/1000µs): 15.4A; Power Line Protection: No; Power - Peak Pulse: 400W; Type: Zener; Unidirectional Channels: 1; Voltage - Breakdown (Min): 17.8V; Part Number: SZ1SMA16AT3G; Applications: Automotive; ComponentLink1Description: Datasheet; ComponentLink1URL: https://www.littelfuse.com/~/media/electronics/datasheets/tvs_diodes/littelfuse_tvs_diode_sz1smaxxa_datasheet.pdf.pdf; ComponentLink2Description: DigiKey Link; ComponentLink2URL: http://digikey.com/product-detail/en/littelfuse-inc/SZ1SMA16AT3G/F11506CT-ND/9326834; LastUpdated: 9/2/2020 1:20:13 AM; Lifecycle Status: Active; Minimum Order: 1; Mounting Type: Surface Mount; Operating Temperature: -65°C ~ 150°C (TJ); Package / Case: DO-214AC, SMA; Packaging: TapeAndReel; PartId: 5566; Part Status: Active; Price: 0.19; Series: Automotive, AEC-Q101; Supplier 1: DigiKey; Supplier Part Number 1: F11506CT-ND; Supplier Device Package: SMA; Voltage - Clamping (Max) @ Ipp: 26V; Voltage - Reverse Standoff (Typ): 16V
footprint DO214AC SMA
pins: 1, 2

## SZ1SMA16CAT3G
designator D?
TVS DIODE 16V 26V SMA; Manufacturer: Littelfuse Inc.; Bidirectional Channels: 1; Capacitance @ Frequency: 375pF @ 1MHz; Current - Peak Pulse (10/1000µs): 15.4A; Power Line Protection: No; Power - Peak Pulse: 400W; Type: Zener; Voltage - Breakdown (Min): 17.8V; Part Number: SZ1SMA16CAT3G; Applications: Automotive; ComponentLink1Description: Datasheet; ComponentLink1URL: https://www.littelfuse.com/~/media/electronics/datasheets/tvs_diodes/littelfuse_tvs_diode_sz1smaxxca_datasheet.pdf.pdf; ComponentLink2Description: DigiKey Link; ComponentLink2URL: http://digikey.com/product-detail/en/littelfuse-inc/SZ1SMA16CAT3G/F11507CT-ND/9326835; LastUpdated: 9/2/2020 1:27:53 AM; Lifecycle Status: Active; Minimum Order: 1; Mounting Type: Surface Mount; Operating Temperature: -65°C ~ 150°C (TJ); Package / Case: DO-214AC, SMA; Packaging: TapeAndReel; PartId: 7545; Part Status: Active; Price: 0.30; Series: Automotive, AEC-Q101; Supplier 1: DigiKey; Supplier Part Number 1: F11507CT-ND; Supplier Device Package: SMA; Voltage - Clamping (Max) @ Ipp: 26V; Voltage - Reverse Standoff (Typ): 16V
footprint DO214AC SMA
pins: 1, 2

## SZ1SMA18AT3G
designator D?
TVS DIODE 18V 29.2V SMA; Manufacturer: Littelfuse Inc.; Capacitance @ Frequency: 645pF @ 1MHz; Current - Peak Pulse (10/1000µs): 13.7A; Power Line Protection: No; Power - Peak Pulse: 400W; Type: Zener; Unidirectional Channels: 1; Voltage - Breakdown (Min): 20V; Part Number: SZ1SMA18AT3G; Applications: Automotive; ComponentLink1Description: Datasheet; ComponentLink1URL: https://www.littelfuse.com/~/media/electronics/datasheets/tvs_diodes/littelfuse_tvs_diode_sz1smaxxa_datasheet.pdf.pdf; ComponentLink2Description: DigiKey Link; ComponentLink2URL: http://digikey.com/product-detail/en/littelfuse-inc/SZ1SMA18AT3G/F11508CT-ND/9326836; LastUpdated: 9/2/2020 1:20:15 AM; Lifecycle Status: Active; Minimum Order: 1; Mounting Type: Surface Mount; Operating Temperature: -65°C ~ 150°C (TJ); Package / Case: DO-214AC, SMA; Packaging: TapeAndReel; PartId: 5777; Part Status: Active; Price: 0.17; Series: Automotive, AEC-Q101; Supplier 1: DigiKey; Supplier Part Number 1: F11508CT-ND; Supplier Device Package: SMA; Voltage - Clamping (Max) @ Ipp: 29.2V; Voltage - Reverse Standoff (Typ): 18V
footprint DO214AC SMA
pins: 1, 2

## SZ1SMA18CAT3G
designator D?
TVS DIODE 18V 29.2V SMA; Manufacturer: Littelfuse Inc.; Bidirectional Channels: 1; Capacitance @ Frequency: 335pF @ 1MHz; Current - Peak Pulse (10/1000µs): 13.7A; Power Line Protection: No; Power - Peak Pulse: 400W; Type: Zener; Voltage - Breakdown (Min): 20V; Part Number: SZ1SMA18CAT3G; Applications: Automotive; ComponentLink1Description: Datasheet; ComponentLink1URL: https://www.littelfuse.com/~/media/electronics/datasheets/tvs_diodes/littelfuse_tvs_diode_sz1smaxxca_datasheet.pdf.pdf; ComponentLink2Description: DigiKey Link; ComponentLink2URL: http://digikey.com/product-detail/en/littelfuse-inc/SZ1SMA18CAT3G/F11509CT-ND/9326837; LastUpdated: 9/2/2020 1:27:50 AM; Lifecycle Status: Active; Minimum Order: 1; Mounting Type: Surface Mount; Operating Temperature: -65°C ~ 150°C (TJ); Package / Case: DO-214AC, SMA; Packaging: TapeAndReel; PartId: 7306; Part Status: Active; Price: 0.30; Series: Automotive, AEC-Q101; Supplier 1: DigiKey; Supplier Part Number 1: F11509CT-ND; Supplier Device Package: SMA; Voltage - Clamping (Max) @ Ipp: 29.2V; Voltage - Reverse Standoff (Typ): 18V
footprint DO214AC SMA
pins: 1, 2

## SZ1SMA20AT3G
designator D?
TVS DIODE 20V 32.4V SMA; Manufacturer: Littelfuse Inc.; Capacitance @ Frequency: 585pF @ 1MHz; Current - Peak Pulse (10/1000µs): 12.3A; Power Line Protection: No; Power - Peak Pulse: 400W; Type: Zener; Unidirectional Channels: 1; Voltage - Breakdown (Min): 22.2V; Part Number: SZ1SMA20AT3G; Applications: Automotive; ComponentLink1Description: Datasheet; ComponentLink1URL: https://www.littelfuse.com/~/media/electronics/datasheets/tvs_diodes/littelfuse_tvs_diode_sz1smaxxa_datasheet.pdf.pdf; ComponentLink2Description: DigiKey Link; ComponentLink2URL: http://digikey.com/product-detail/en/littelfuse-inc/SZ1SMA20AT3G/F11510CT-ND/9326838; LastUpdated: 9/2/2020 1:20:12 AM; Lifecycle Status: Active; Minimum Order: 1; Mounting Type: Surface Mount; Operating Temperature: -65°C ~ 150°C (TJ); Package / Case: DO-214AC, SMA; Packaging: TapeAndReel; PartId: 5557; Part Status: Active; Price: 0.19; Series: Automotive, AEC-Q101; Supplier 1: DigiKey; Supplier Part Number 1: F11510CT-ND; Supplier Device Package: SMA; Voltage - Clamping (Max) @ Ipp: 32.4V; Voltage - Reverse Standoff (Typ): 20V
footprint DO214AC SMA
pins: 1, 2

## SZ1SMA22AT3G
designator D?
TVS DIODE 22V 35.5V SMA; Manufacturer: Littelfuse Inc.; Capacitance @ Frequency: 540pF @ 1MHz; Current - Peak Pulse (10/1000µs): 11.3A; Power Line Protection: No; Power - Peak Pulse: 400W; Type: Zener; Unidirectional Channels: 1; Voltage - Breakdown (Min): 24.4V; Part Number: SZ1SMA22AT3G; Applications: Automotive; ComponentLink1Description: Datasheet; ComponentLink1URL: https://www.littelfuse.com/~/media/electronics/datasheets/tvs_diodes/littelfuse_tvs_diode_sz1smaxxa_datasheet.pdf.pdf; ComponentLink2Description: DigiKey Link; ComponentLink2URL: http://digikey.com/product-detail/en/littelfuse-inc/SZ1SMA22AT3G/F11511CT-ND/9326839; LastUpdated: 9/2/2020 1:20:18 AM; Lifecycle Status: Active; Minimum Order: 1; Mounting Type: Surface Mount; Operating Temperature: -65°C ~ 150°C (TJ); Package / Case: DO-214AC, SMA; Packaging: TapeAndReel; PartId: 6193; Part Status: Active; Price: 0.19; Series: Automotive, AEC-Q101; Supplier 1: DigiKey; Supplier Part Number 1: F11511CT-ND; Supplier Device Package: SMA; Voltage - Clamping (Max) @ Ipp: 35.5V; Voltage - Reverse Standoff (Typ): 22V
footprint DO214AC SMA
pins: 1, 2

## SZ1SMA24AT3G
designator D?
TVS DIODE 24V 38.9V SMA; Manufacturer: Littelfuse Inc.; Capacitance @ Frequency: 500pF @ 1MHz; Current - Peak Pulse (10/1000µs): 10.3A; Power Line Protection: No; Power - Peak Pulse: 400W; Type: Zener; Unidirectional Channels: 1; Voltage - Breakdown (Min): 26.7V; Part Number: SZ1SMA24AT3G; Applications: Automotive; ComponentLink1Description: Datasheet; ComponentLink1URL: https://www.littelfuse.com/~/media/electronics/datasheets/tvs_diodes/littelfuse_tvs_diode_sz1smaxxa_datasheet.pdf.pdf; ComponentLink2Description: DigiKey Link; ComponentLink2URL: http://digikey.com/product-detail/en/littelfuse-inc/SZ1SMA24AT3G/F11512CT-ND/9326840; LastUpdated: 9/2/2020 1:20:18 AM; Lifecycle Status: Active; Minimum Order: 1; Mounting Type: Surface Mount; Operating Temperature: -65°C ~ 150°C (TJ); Package / Case: DO-214AC, SMA; Packaging: TapeAndReel; PartId: 6192; Part Status: Active; Price: 0.19; Series: Automotive, AEC-Q101; Supplier 1: DigiKey; Supplier Part Number 1: F11512CT-ND; Supplier Device Package: SMA; Voltage - Clamping (Max) @ Ipp: 38.9V; Voltage - Reverse Standoff (Typ): 24V
footprint DO214AC SMA
pins: 1, 2

## SZ1SMA24CAT3G
designator D?
TVS DIODE 24V 38.9V SMA; Manufacturer: Littelfuse Inc.; Bidirectional Channels: 1; Capacitance @ Frequency: 260pF @ 1MHz; Current - Peak Pulse (10/1000µs): 10.3A; Power Line Protection: No; Power - Peak Pulse: 400W; Type: Zener; Voltage - Breakdown (Min): 26.7V; Part Number: SZ1SMA24CAT3G; Applications: Automotive; ComponentLink1Description: Datasheet; ComponentLink1URL: https://www.littelfuse.com/~/media/electronics/datasheets/tvs_diodes/littelfuse_tvs_diode_sz1smaxxca_datasheet.pdf.pdf; ComponentLink2Description: DigiKey Link; ComponentLink2URL: http://digikey.com/product-detail/en/littelfuse-inc/SZ1SMA24CAT3G/F11513CT-ND/9326841; LastUpdated: 9/2/2020 1:27:53 AM; Lifecycle Status: Active; Minimum Order: 1; Mounting Type: Surface Mount; Operating Temperature: -65°C ~ 150°C (TJ); Package / Case: DO-214AC, SMA; Packaging: TapeAndReel; PartId: 7544; Part Status: Active; Price: 0.30; Series: Automotive, AEC-Q101; Supplier 1: DigiKey; Supplier Part Number 1: F11513CT-ND; Supplier Device Package: SMA; Voltage - Clamping (Max) @ Ipp: 38.9V; Voltage - Reverse Standoff (Typ): 24V
footprint DO214AC SMA
pins: 1, 2

## SZ1SMA26AT3G
designator D?
TVS DIODE 26V 42.1V SMA; Manufacturer: Littelfuse Inc.; Capacitance @ Frequency: 460pF @ 1MHz; Current - Peak Pulse (10/1000µs): 9.5A; Power Line Protection: No; Power - Peak Pulse: 400W; Type: Zener; Unidirectional Channels: 1; Voltage - Breakdown (Min): 28.9V; Part Number: SZ1SMA26AT3G; Applications: Automotive; ComponentLink1Description: Datasheet; ComponentLink1URL: https://www.littelfuse.com/~/media/electronics/datasheets/tvs_diodes/littelfuse_tvs_diode_sz1smaxxa_datasheet.pdf.pdf; ComponentLink2Description: DigiKey Link; ComponentLink2URL: http://digikey.com/product-detail/en/littelfuse-inc/SZ1SMA26AT3G/F11514CT-ND/9326842; LastUpdated: 9/2/2020 1:20:13 AM; Lifecycle Status: Active; Minimum Order: 1; Mounting Type: Surface Mount; Operating Temperature: -65°C ~ 150°C (TJ); Package / Case: DO-214AC, SMA; Packaging: TapeAndReel; PartId: 5569; Part Status: Active; Price: 0.19; Series: Automotive, AEC-Q101; Supplier 1: DigiKey; Supplier Part Number 1: F11514CT-ND; Supplier Device Package: SMA; Voltage - Clamping (Max) @ Ipp: 42.1V; Voltage - Reverse Standoff (Typ): 26V
footprint DO214AC SMA
pins: 1, 2

## SZ1SMA26CAT3G
designator D?
TVS DIODE 26V 42.1V SMA; Manufacturer: Littelfuse Inc.; Bidirectional Channels: 1; Capacitance @ Frequency: 240pF @ 1MHz; Current - Peak Pulse (10/1000µs): 9.5A; Power Line Protection: No; Power - Peak Pulse: 400W; Type: Zener; Voltage - Breakdown (Min): 28.9V; Part Number: SZ1SMA26CAT3G; Applications: Automotive; ComponentLink1Description: Datasheet; ComponentLink1URL: https://www.littelfuse.com/~/media/electronics/datasheets/tvs_diodes/littelfuse_tvs_diode_sz1smaxxca_datasheet.pdf.pdf; ComponentLink2Description: DigiKey Link; ComponentLink2URL: http://digikey.com/product-detail/en/littelfuse-inc/SZ1SMA26CAT3G/F11515CT-ND/9326843; LastUpdated: 9/2/2020 1:27:53 AM; Lifecycle Status: Active; Minimum Order: 1; Mounting Type: Surface Mount; Operating Temperature: -65°C ~ 150°C (TJ); Package / Case: DO-214AC, SMA; Packaging: TapeAndReel; PartId: 7542; Part Status: Active; Price: 0.30; Series: Automotive, AEC-Q101; Supplier 1: DigiKey; Supplier Part Number 1: F11515CT-ND; Supplier Device Package: SMA; Voltage - Clamping (Max) @ Ipp: 42.1V; Voltage - Reverse Standoff (Typ): 26V
footprint DO214AC SMA
pins: 1, 2

## SZ1SMA28AT3G
designator D?
TVS DIODE 28V 45.4V SMA; Manufacturer: Littelfuse Inc.; Capacitance @ Frequency: 430pF @ 1MHz; Current - Peak Pulse (10/1000µs): 8.8A; Power Line Protection: No; Power - Peak Pulse: 400W; Type: Zener; Unidirectional Channels: 1; Voltage - Breakdown (Min): 31.1V; Part Number: SZ1SMA28AT3G; Applications: Automotive; ComponentLink1Description: Datasheet; ComponentLink1URL: https://www.littelfuse.com/~/media/electronics/datasheets/tvs_diodes/littelfuse_tvs_diode_sz1smaxxa_datasheet.pdf.pdf; ComponentLink2Description: DigiKey Link; ComponentLink2URL: http://digikey.com/product-detail/en/littelfuse-inc/SZ1SMA28AT3G/F11516CT-ND/9326844; LastUpdated: 9/2/2020 1:20:12 AM; Lifecycle Status: Active; Minimum Order: 1; Mounting Type: Surface Mount; Operating Temperature: -65°C ~ 150°C (TJ); Package / Case: DO-214AC, SMA; Packaging: TapeAndReel; PartId: 5558; Part Status: Active; Price: 0.19; Series: Automotive, AEC-Q101; Supplier 1: DigiKey; Supplier Part Number 1: F11516CT-ND; Supplier Device Package: SMA; Voltage - Clamping (Max) @ Ipp: 45.4V; Voltage - Reverse Standoff (Typ): 28V
footprint DO214AC SMA
pins: 1, 2